# EAGLE library part JTAG_CONNECTOR (library WSNlib)
Cortex Debug Connector http://www.keil.com/coresight/connectors.asp
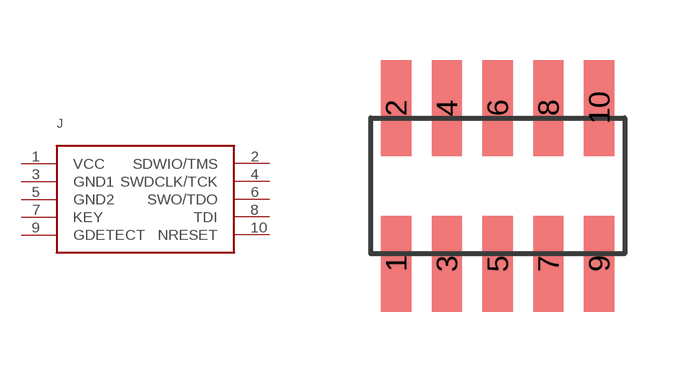
[diagram p8: symbol with the pads of SMD-050-HEADER-2X5; footprint SMD-050-HEADER-2X5]

Designator prefix J

## JTAG_CONNECTOR  [SMD-050-HEADER-2X5]
1  VCC
2  SDWIO/TMS
3  GND1
4  SWDCLK/TCK
5  GND2
6  SWO/TDO
7  KEY
8  TDI
9  GDETECT
10  NRESET

## Footprint SMD-050-HEADER-2X5 (pad centres in mm)
2x10 SMD 50mil header http://portal.fciconnect.com/res/en/pdffiles/doc_search/20021121.pdf
smd 0.76 x 2.4: 1 -2.54,-1.95; 2 -2.54,1.95; 3 -1.27,-1.95; 4 -1.27,1.95; 5 0,-1.95; 6 0,1.95; 7 1.27,-1.95; 8 1.27,1.95; 9 2.54,-1.95; 10 2.54,1.95